# Altium footprint library Resistor_Smd_M2012_I0805.PcbLib: 1 footprints
Each footprint in its own frame and in the unit in brackets; x right, y up, seen from the top. Pads: shape width x height; smd on the part's side, far side on the other; paste and mask are expansions set on the pad; w line width, h text height; cw(c..) or ccw(c..) is an arc to the next point about the centre after c.
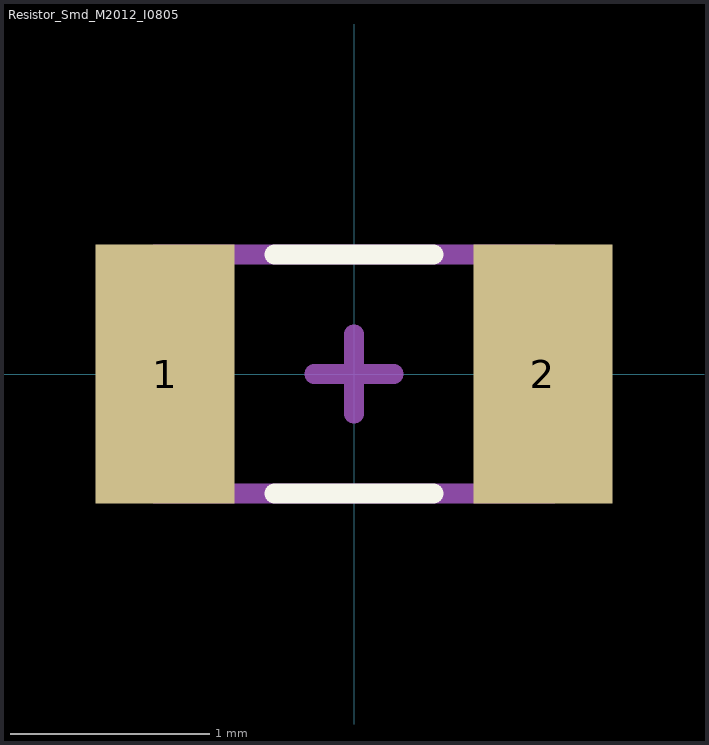
[diagram p0: the footprint, top view; thin cyan lines are the x and y axes]

## Resistor_Smd_M2012_I0805 [mm] "Resistor_Smd_M2012_I0805"
height 0.45
pads (2):
  rect 0.7x1.3 smd mask+0.05: 1(-0.95,0) 2(0.95,0)
Top Overlay:
  lines w0.1: -0.4,-0.6 0.4,-0.6 ; -0.4,0.6 0.4,0.6
Top Assembly:
  lines w0.1: -1,-0.6 1,-0.6 1,0.6 -1,0.6 -1,-0.6
Top Designator:
  text ".Designator" at -1.4,-1.412 h1
Top Component Center:
  lines w0.1: -0.2,0 0.2,0 ; 0,-0.2 0,0.2
3D body "Resistor_Smd_M2012_I0805.step": height 0.6, standoff 0, extent -1,-0.61 1,0.61